# Altium schematic symbol library MPL115A1.Schlib: 1 symbol
Pins are listed as number, name and electrical type; pins without a type are passive.

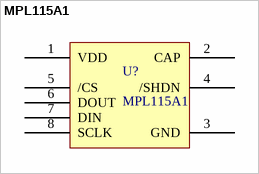
[diagram p0: symbol MPL115A1]

## MPL115A1
designator U?
Barometric Pressure/Temperature Sensor
pins: 1 VDD, 2 CAP, 3 GND, 4 /SHDN, 5 /CS, 6 DOUT, 7 DIN, 8 SCLK